# Altium schematic symbol library licenta.SchLib: 14 symbols
Pins are listed as number, name and electrical type; pins without a type are passive.

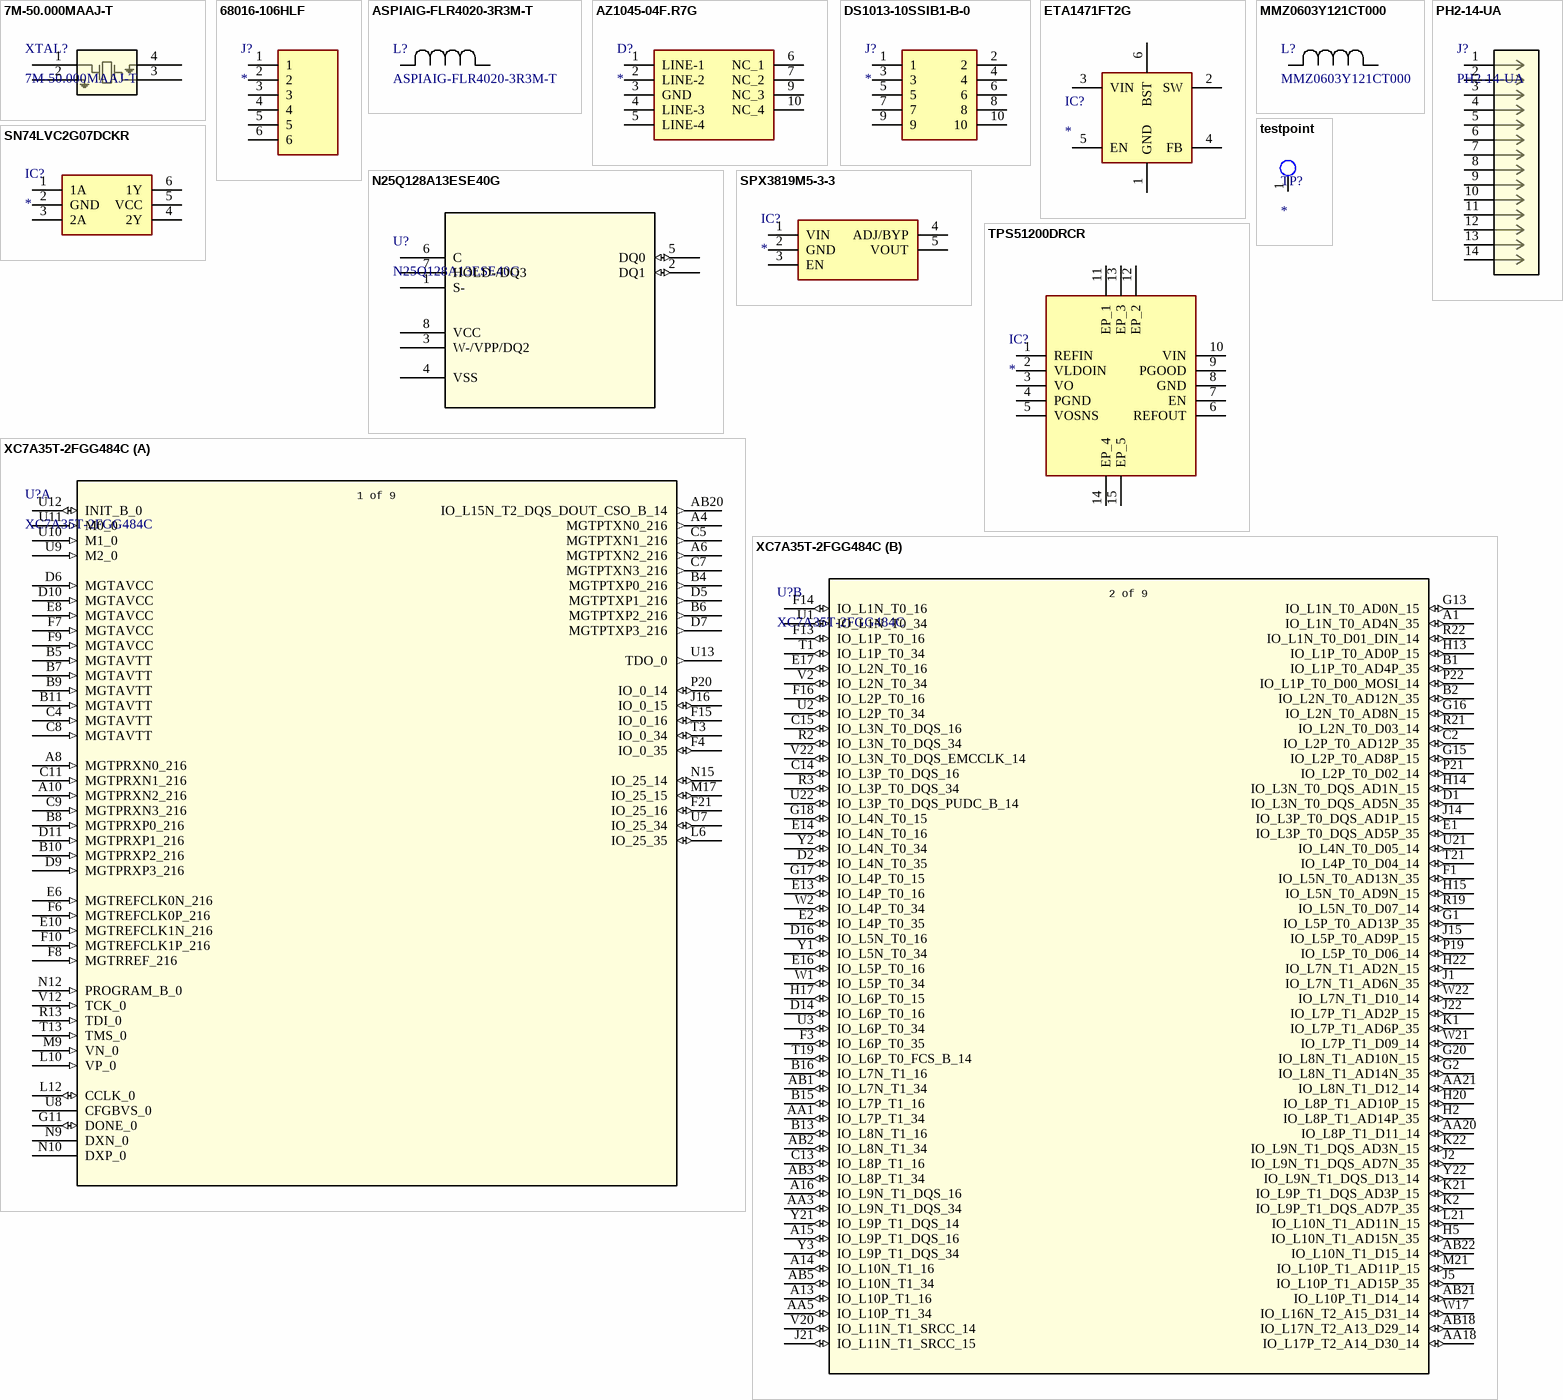
[diagram p0: symbols 7M-50.000MAAJ-T to XC7A35T-2FGG484C]

## 7M-50.000MAAJ-T
designator XTAL?
No Description Available; Manufacturer_Name: TXC; Copyright: Copyright (C) 2026 Ultra Librarian. All rights reserved.; Manufacturer_Part_Number: 7M-50.000MAAJ-T; RefDes: RefDes; Type: Type
footprint 7M_TXC
pins: 1, 2, 3, 4

## 68016-106HLF
designator J?
Connector; Manufacturer_Name: Amphenol Communications Solutions; Manufacturer_Part_Number: 68016-106HLF; Datasheet Link: https://cdn.amphenol-cs.com/media/wysiwyg/files/drawing/68015.pdf; Height: 2.54mm
footprint HDRRA6W67P0X254_1X6_1524X254X254P
pins: 1, 2, 3, 4, 5, 6

## ASPIAIG-FLR4020-3R3M-T
designator L?
Description; Manufacturer_Name: Abracon; Copyright: Copyright (C) 2026 Ultra Librarian. All rights reserved.; Manufacturer_Part_Number: ASPIAIG-FLR4020-3R3M-T
footprint IND_ASPIAIG-F4020_ABR
pins: 1, 2

## AZ1045-04F.R7G
designator D?
Diode ESD (Uni-directional); Manufacturer_Name: Amazing Microelectronic Corp.; Manufacturer_Part_Number: AZ1045-04F.R7G; Datasheet Link: https://download.datasheets.com/pdfs/2013/10/3/2/31/47/175/amzng_/manual/az1045-04f_datasheet.pdf?_ga=2.166408059.458781722.1648096097-1927931834.1642822301; Height: 0.55mm
footprint AZ104504FR7G
pins: 1 LINE-1, 2 LINE-2, 3 GND, 4 LINE-3, 5 LINE-4, 6 NC_1, 7 NC_2, 9 NC_3, 10 NC_4

## DS1013-10SSIB1-B-0
designator J?
Connector; Manufacturer_Name: Connfly; Manufacturer_Part_Number: DS1013-10SSIB1-B-0; Datasheet Link: https://www.tme.eu/Document/c6e6da985bd9c519d97c4924b5c8a047/DS1013.pdf; Height: 9.48mm
footprint DS101310SSIB1B0
pins: 1, 2, 3, 4, 5, 6, 7, 8, 9, 10

## ETA1471FT2G
designator IC?
Integrated Circuit; Manufacturer_Name: ETA Solutions; Manufacturer_Part_Number: ETA1471FT2G; Datasheet Link: https://atlas.eefcdn.com/partdatasheet/700056/700056_26425269_1757294122249.pdf; Height: 1.1mm
footprint SOT95P280X110-6N
pins: 1 GND, 2 SW, 3 VIN, 4 FB, 5 EN, 6 BST

## MMZ0603Y121CT000
designator L?
Description; Manufacturer_Name: TDK; Copyright: Copyright (C) 2026 Ultra Librarian. All rights reserved.; Manufacturer_Part_Number: MMZ0603Y121CT000
footprint IND_0603_TDK
pins: 1, 2

## N25Q128A13ESE40G
designator U?
Description; Manufacturer_Name: Micron; Copyright: Copyright (C) 2025 Ultra Librarian. All rights reserved.; Manufacturer_Part_Number: N25Q128A13ESE40G; RefDes: RefDes; Type: Type
footprint SO8W_5P49X5P49_MRN
pins: 1 S-, 2 DQ1 (io), 3 W-/VPP/DQ2 (power), 4 VSS (power), 5 DQ0 (io), 6 C, 7 HOLD-/DQ3, 8 VCC (power)

## PH2-14-UA
designator J?
Description; Manufacturer_Name: ADAM TECHNOLOGIES INC; Type: Headers, Male Pins; Copyright: Copyright (C) 2025 Ultra Librarian. All rights reserved.; Manufacturer_Part_Number: PH2-14-UA; RefDes: RefDes
footprint CONN_PH2-14-UA_ADM
pins: 1, 2, 3, 4, 5, 6, 7, 8, 9, 10, 11, 12, 13, 14

## SN74LVC2G07DCKR
designator IC?
Integrated Circuit; Manufacturer_Name: Texas Instruments; Manufacturer_Part_Number: SN74LVC2G07DCKR; Datasheet Link: https://datasheet.lcsc.com/szlcsc/Texas-Instruments-TI-SN74LVC2G07DCKR_C7849.pdf; Height: 1.1mm; Mouser Part Number: 595-SN74LVC2G07DCKR; Mouser Price/Stock: https://www.mouser.co.uk/ProductDetail/Texas-Instruments/SN74LVC2G07DCKR?qs=EIjG%252BN7kn%252Bn6uhrXwDLE9Q%3D%3D; Arrow Part Number: SN74LVC2G07DCKR; Arrow Price/Stock: https://www.arrow.com/en/products/sn74lvc2g07dckr/texas-instruments?region=nac
footprint SOT65P210X110-6N
pins: 1 1A, 2 GND, 3 2A, 4 2Y, 5 VCC, 6 1Y

## SPX3819M5-3-3
designator IC?
Integrated Circuit; Manufacturer_Name: EXAR; Manufacturer_Part_Number: SPX3819M5-3-3; Datasheet Link: https://www.alldatasheet.com/datasheet-pdf/download/190079/SIPEX/SPX3819M5-3-3.html; Height: 1.45mm; Mouser Part Number: N/A; Mouser Price/Stock: https://www.mouser.com/Search/Refine.aspx?Keyword=N%2FA
footprint SOT95P280X145-5N
pins: 1 VIN, 2 GND, 3 EN, 4 ADJ/BYP, 5 VOUT

## testpoint
designator TP?
pins: 1

## TPS51200DRCR
designator IC?
Integrated Circuit; Manufacturer_Name: Texas Instruments; Manufacturer_Part_Number: TPS51200DRCR; Datasheet Link: https://www.ti.com/lit/gpn/tps51200?HQS=ti-null-null-sf-df-pf-sep-wwe&DCM=yes; Height: 1mm; Mouser Part Number: 595-TPS51200DRCR; Mouser Price/Stock: https://www.mouser.co.uk/ProductDetail/Texas-Instruments/TPS51200DRCR?qs=WxL8HmPi5r54D5pDlo3K5g%3D%3D; Arrow Part Number: TPS51200DRCR; Arrow Price/Stock: https://www.arrow.com/en/products/tps51200drcr/texas-instruments?region=nac
footprint TPS51200DRCR
pins: 1 REFIN, 2 VLDOIN, 3 VO, 4 PGND, 5 VOSNS, 6 REFOUT, 7 EN, 8 GND, 9 PGOOD, 10 VIN, 11 EP_1, 12 EP_2, 13 EP_3, 14 EP_4, 15 EP_5

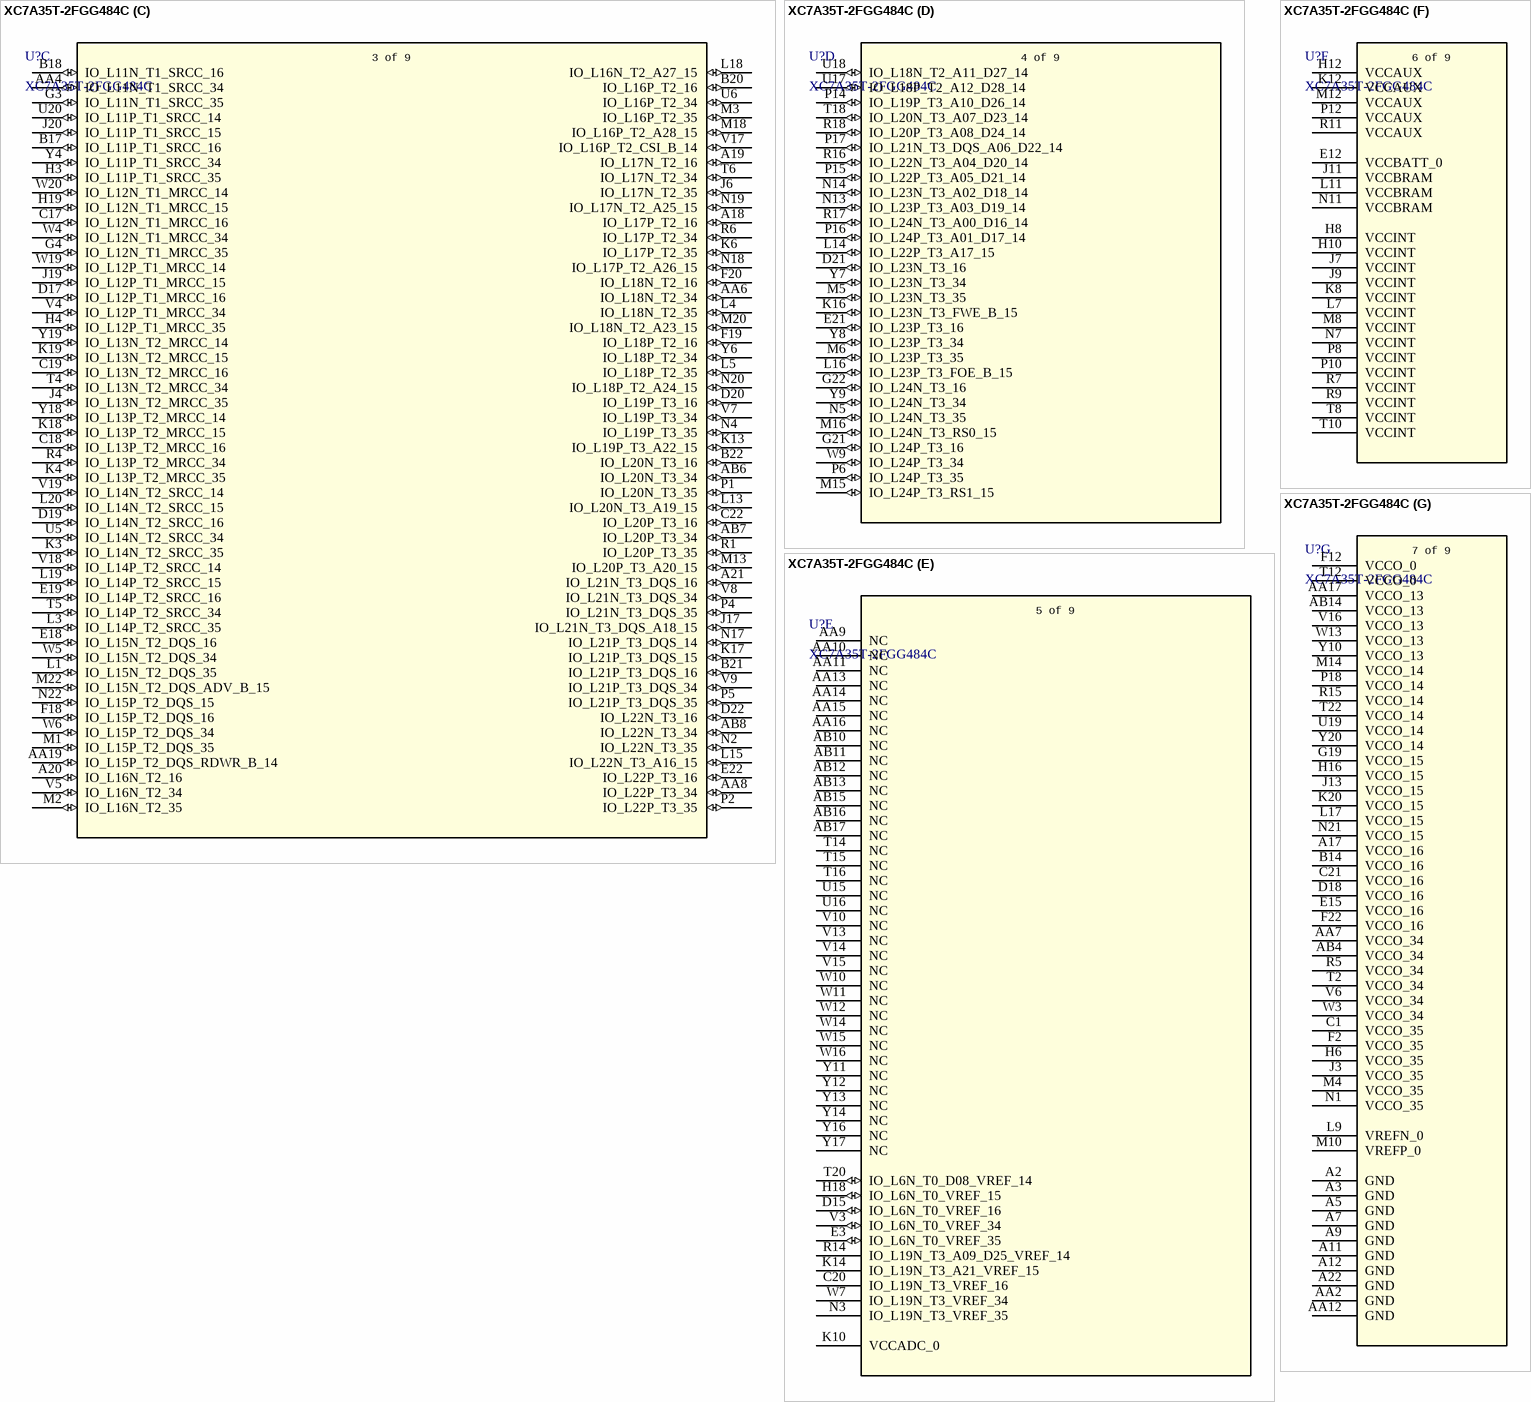
[diagram p1: symbol XC7A35T-2FGG484C]

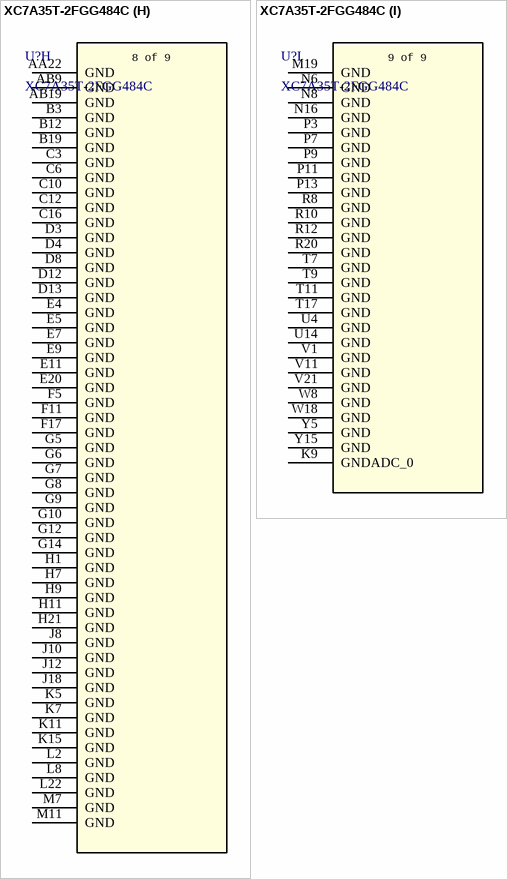
[diagram p2: symbol XC7A35T-2FGG484C]

## XC7A35T-2FGG484C
designator U?
Description; Manufacturer_Name: AMD; Copyright: Copyright (C) 2026 Ultra Librarian. All rights reserved.; Manufacturer_Part_Number: XC7A35T-2FGG484C; RefDes: RefDes; Type: Type
footprint FGG484_AMD
part A pins: A4 MGTPTXN0_216 (out), A6 MGTPTXN2_216 (out), A8 MGTPRXN0_216 (in), A10 MGTPRXN2_216 (in), AB20 IO_L15N_T2_DQS_DOUT_CSO_B_14 (out), B4 MGTPTXP0_216 (out), B5 MGTAVTT (in), B6 MGTPTXP2_216 (out), B7 MGTAVTT (in), B8 MGTPRXP0_216 (in), B9 MGTAVTT (in), B10 MGTPRXP2_216 (in), B11 MGTAVTT (in), C4 MGTAVTT (in), C5 MGTPTXN1_216 (out), C7 MGTPTXN3_216 (out), C8 MGTAVTT (in), C9 MGTPRXN3_216 (in), C11 MGTPRXN1_216 (in), D5 MGTPTXP1_216 (out), D6 MGTAVCC (in), D7 MGTPTXP3_216 (out), D9 MGTPRXP3_216 (in), D10 MGTAVCC (in), D11 MGTPRXP1_216 (in), E6 MGTREFCLK0N_216 (in), E8 MGTAVCC (in), E10 MGTREFCLK1N_216 (in), F4 IO_0_35 (io), F6 MGTREFCLK0P_216 (in), F7 MGTAVCC (in), F8 MGTRREF_216 (in), F9 MGTAVCC (in), F10 MGTREFCLK1P_216 (in), F15 IO_0_16 (io), F21 IO_25_16 (io), G11 DONE_0 (io), J16 IO_0_15 (io), L6 IO_25_35 (io), L10 VP_0 (in), L12 CCLK_0 (io), M9 VN_0 (in), M17 IO_25_15 (io), N9 DXN_0, N10 DXP_0, N12 PROGRAM_B_0 (in), N15 IO_25_14 (io), P20 IO_0_14 (io), R13 TDI_0 (in), T3 IO_0_34 (io), T13 TMS_0 (in), U7 IO_25_34 (io), U8 CFGBVS_0, U9 M2_0 (in), U10 M1_0 (in), U11 M0_0 (in), U12 INIT_B_0 (io), U13 TDO_0 (out), V12 TCK_0 (in)
part B pins: A1 IO_L1N_T0_AD4N_35 (io), A13 IO_L10P_T1_16 (io), A14 IO_L10N_T1_16 (io), A15 IO_L9P_T1_DQS_16 (io), A16 IO_L9N_T1_DQS_16 (io), AA1 IO_L7P_T1_34 (io), AA3 IO_L9N_T1_DQS_34 (io), AA5 IO_L10P_T1_34 (io), AA18 IO_L17P_T2_A14_D30_14 (io), AA20 IO_L8P_T1_D11_14 (io), AA21 IO_L8N_T1_D12_14 (io), AB1 IO_L7N_T1_34 (io), AB2 IO_L8N_T1_34 (io), AB3 IO_L8P_T1_34 (io), AB5 IO_L10N_T1_34 (io), AB18 IO_L17N_T2_A13_D29_14 (io), AB21 IO_L10P_T1_D14_14 (io), AB22 IO_L10N_T1_D15_14 (io), B1 IO_L1P_T0_AD4P_35 (io), B2 IO_L2N_T0_AD12N_35 (io), B13 IO_L8N_T1_16 (io), B15 IO_L7P_T1_16 (io), B16 IO_L7N_T1_16 (io), C2 IO_L2P_T0_AD12P_35 (io), C13 IO_L8P_T1_16 (io), C14 IO_L3P_T0_DQS_16 (io), C15 IO_L3N_T0_DQS_16 (io), D1 IO_L3N_T0_DQS_AD5N_35 (io), D2 IO_L4N_T0_35 (io), D14 IO_L6P_T0_16 (io), D16 IO_L5N_T0_16 (io), E1 IO_L3P_T0_DQS_AD5P_35 (io), E2 IO_L4P_T0_35 (io), E13 IO_L4P_T0_16 (io), E14 IO_L4N_T0_16 (io), E16 IO_L5P_T0_16 (io), E17 IO_L2N_T0_16 (io), F1 IO_L5N_T0_AD13N_35 (io), F3 IO_L6P_T0_35 (io), F13 IO_L1P_T0_16 (io), F14 IO_L1N_T0_16 (io), F16 IO_L2P_T0_16 (io), G1 IO_L5P_T0_AD13P_35 (io), G2 IO_L8N_T1_AD14N_35 (io), G13 IO_L1N_T0_AD0N_15 (io), G15 IO_L2P_T0_AD8P_15 (io), G16 IO_L2N_T0_AD8N_15 (io), G17 IO_L4P_T0_15 (io), G18 IO_L4N_T0_15 (io), G20 IO_L8N_T1_AD10N_15 (io), H2 IO_L8P_T1_AD14P_35 (io), H5 IO_L10N_T1_AD15N_35 (io), H13 IO_L1P_T0_AD0P_15 (io), H14 IO_L3N_T0_DQS_AD1N_15 (io), H15 IO_L5N_T0_AD9N_15 (io), H17 IO_L6P_T0_15 (io), H20 IO_L8P_T1_AD10P_15 (io), H22 IO_L7N_T1_AD2N_15 (io), J1 IO_L7N_T1_AD6N_35 (io), J2 IO_L9N_T1_DQS_AD7N_35 (io), J5 IO_L10P_T1_AD15P_35 (io), J14 IO_L3P_T0_DQS_AD1P_15 (io), J15 IO_L5P_T0_AD9P_15 (io), J21 IO_L11N_T1_SRCC_15 (io), J22 IO_L7P_T1_AD2P_15 (io), K1 IO_L7P_T1_AD6P_35 (io), K2 IO_L9P_T1_DQS_AD7P_35 (io), K21 IO_L9P_T1_DQS_AD3P_15 (io), K22 IO_L9N_T1_DQS_AD3N_15 (io), L21 IO_L10N_T1_AD11N_15 (io), M21 IO_L10P_T1_AD11P_15 (io), P19 IO_L5P_T0_D06_14 (io), P21 IO_L2P_T0_D02_14 (io), P22 IO_L1P_T0_D00_MOSI_14 (io), R2 IO_L3N_T0_DQS_34 (io), R3 IO_L3P_T0_DQS_34 (io), R19 IO_L5N_T0_D07_14 (io), R21 IO_L2N_T0_D03_14 (io), R22 IO_L1N_T0_D01_DIN_14 (io), T1 IO_L1P_T0_34 (io), T19 IO_L6P_T0_FCS_B_14 (io), T21 IO_L4P_T0_D04_14 (io), U1 IO_L1N_T0_34 (io), U2 IO_L2P_T0_34 (io), U3 IO_L6P_T0_34 (io), U21 IO_L4N_T0_D05_14 (io), U22 IO_L3P_T0_DQS_PUDC_B_14 (io), V2 IO_L2N_T0_34 (io), V20 IO_L11N_T1_SRCC_14 (io), V22 IO_L3N_T0_DQS_EMCCLK_14 (io), W1 IO_L5P_T0_34 (io), W2 IO_L4P_T0_34 (io), W17 IO_L16N_T2_A15_D31_14 (io), W21 IO_L7P_T1_D09_14 (io), W22 IO_L7N_T1_D10_14 (io), Y1 IO_L5N_T0_34 (io), Y2 IO_L4N_T0_34 (io), Y3 IO_L9P_T1_DQS_34 (io), Y21 IO_L9P_T1_DQS_14 (io), Y22 IO_L9N_T1_DQS_D13_14 (io)
part C pins: A18 IO_L17P_T2_16 (io), A19 IO_L17N_T2_16 (io), A20 IO_L16N_T2_16 (io), A21 IO_L21N_T3_DQS_16 (io), AA4 IO_L11N_T1_SRCC_34 (io), AA6 IO_L18N_T2_34 (io), AA8 IO_L22P_T3_34 (io), AA19 IO_L15P_T2_DQS_RDWR_B_14 (io), AB6 IO_L20N_T3_34 (io), AB7 IO_L20P_T3_34 (io), AB8 IO_L22N_T3_34 (io), B17 IO_L11P_T1_SRCC_16 (io), B18 IO_L11N_T1_SRCC_16 (io), B20 IO_L16P_T2_16 (io), B21 IO_L21P_T3_DQS_16 (io), B22 IO_L20N_T3_16 (io), C17 IO_L12N_T1_MRCC_16 (io), C18 IO_L13P_T2_MRCC_16 (io), C19 IO_L13N_T2_MRCC_16 (io), C22 IO_L20P_T3_16 (io), D17 IO_L12P_T1_MRCC_16 (io), D19 IO_L14N_T2_SRCC_16 (io), D20 IO_L19P_T3_16 (io), D22 IO_L22N_T3_16 (io), E18 IO_L15N_T2_DQS_16 (io), E19 IO_L14P_T2_SRCC_16 (io), E22 IO_L22P_T3_16 (io), F18 IO_L15P_T2_DQS_16 (io), F19 IO_L18P_T2_16 (io), F20 IO_L18N_T2_16 (io), G3 IO_L11N_T1_SRCC_35 (io), G4 IO_L12N_T1_MRCC_35 (io), H3 IO_L11P_T1_SRCC_35 (io), H4 IO_L12P_T1_MRCC_35 (io), H19 IO_L12N_T1_MRCC_15 (io), J4 IO_L13N_T2_MRCC_35 (io), J6 IO_L17N_T2_35 (io), J17 IO_L21N_T3_DQS_A18_15 (io), J19 IO_L12P_T1_MRCC_15 (io), J20 IO_L11P_T1_SRCC_15 (io), K3 IO_L14N_T2_SRCC_35 (io), K4 IO_L13P_T2_MRCC_35 (io), K6 IO_L17P_T2_35 (io), K13 IO_L19P_T3_A22_15 (io), K17 IO_L21P_T3_DQS_15 (io), K18 IO_L13P_T2_MRCC_15 (io), K19 IO_L13N_T2_MRCC_15 (io), L1 IO_L15N_T2_DQS_35 (io), L3 IO_L14P_T2_SRCC_35 (io), L4 IO_L18N_T2_35 (io), L5 IO_L18P_T2_35 (io), L13 IO_L20N_T3_A19_15 (io), L15 IO_L22N_T3_A16_15 (io), L18 IO_L16N_T2_A27_15 (io), L19 IO_L14P_T2_SRCC_15 (io), L20 IO_L14N_T2_SRCC_15 (io), M1 IO_L15P_T2_DQS_35 (io), M2 IO_L16N_T2_35 (io), M3 IO_L16P_T2_35 (io), M13 IO_L20P_T3_A20_15 (io), M18 IO_L16P_T2_A28_15 (io), M20 IO_L18N_T2_A23_15 (io), M22 IO_L15N_T2_DQS_ADV_B_15 (io), N2 IO_L22N_T3_35 (io), N4 IO_L19P_T3_35 (io), N17 IO_L21P_T3_DQS_14 (io), N18 IO_L17P_T2_A26_15 (io), N19 IO_L17N_T2_A25_15 (io), N20 IO_L18P_T2_A24_15 (io), N22 IO_L15P_T2_DQS_15 (io), P1 IO_L20N_T3_35 (io), P2 IO_L22P_T3_35 (io), P4 IO_L21N_T3_DQS_35 (io), P5 IO_L21P_T3_DQS_35 (io), R1 IO_L20P_T3_35 (io), R4 IO_L13P_T2_MRCC_34 (io), R6 IO_L17P_T2_34 (io), T4 IO_L13N_T2_MRCC_34 (io), T5 IO_L14P_T2_SRCC_34 (io), T6 IO_L17N_T2_34 (io), U5 IO_L14N_T2_SRCC_34 (io), U6 IO_L16P_T2_34 (io), U20 IO_L11P_T1_SRCC_14 (io), V4 IO_L12P_T1_MRCC_34 (io), V5 IO_L16N_T2_34 (io), V7 IO_L19P_T3_34 (io), V8 IO_L21N_T3_DQS_34 (io), V9 IO_L21P_T3_DQS_34 (io), V17 IO_L16P_T2_CSI_B_14 (io), V18 IO_L14P_T2_SRCC_14 (io), V19 IO_L14N_T2_SRCC_14 (io), W4 IO_L12N_T1_MRCC_34 (io), W5 IO_L15N_T2_DQS_34 (io), W6 IO_L15P_T2_DQS_34 (io), W19 IO_L12P_T1_MRCC_14 (io), W20 IO_L12N_T1_MRCC_14 (io), Y4 IO_L11P_T1_SRCC_34 (io), Y6 IO_L18P_T2_34 (io), Y18 IO_L13P_T2_MRCC_14 (io), Y19 IO_L13N_T2_MRCC_14 (io)
part D pins: D21 IO_L23N_T3_16 (io), E21 IO_L23P_T3_16 (io), G21 IO_L24P_T3_16 (io), G22 IO_L24N_T3_16 (io), K16 IO_L23N_T3_FWE_B_15 (io), L14 IO_L22P_T3_A17_15 (io), L16 IO_L23P_T3_FOE_B_15 (io), M5 IO_L23N_T3_35 (io), M6 IO_L23P_T3_35 (io), M15 IO_L24P_T3_RS1_15 (io), M16 IO_L24N_T3_RS0_15 (io), N5 IO_L24N_T3_35 (io), N13 IO_L23P_T3_A03_D19_14 (io), N14 IO_L23N_T3_A02_D18_14 (io), P6 IO_L24P_T3_35 (io), P14 IO_L19P_T3_A10_D26_14 (io), P15 IO_L22P_T3_A05_D21_14 (io), P16 IO_L24P_T3_A01_D17_14 (io), P17 IO_L21N_T3_DQS_A06_D22_14 (io), R16 IO_L22N_T3_A04_D20_14 (io), R17 IO_L24N_T3_A00_D16_14 (io), R18 IO_L20P_T3_A08_D24_14 (io), T18 IO_L20N_T3_A07_D23_14 (io), U17 IO_L18P_T2_A12_D28_14 (io), U18 IO_L18N_T2_A11_D27_14 (io), W9 IO_L24P_T3_34 (io), Y7 IO_L23N_T3_34 (io), Y8 IO_L23P_T3_34 (io), Y9 IO_L24N_T3_34 (io)
part E pins: AA9 NC, AA10 NC, AA11 NC, AA13 NC, AA14 NC, AA15 NC, AA16 NC, AB10 NC, AB11 NC, AB12 NC, AB13 NC, AB15 NC, AB16 NC, AB17 NC, C20 IO_L19N_T3_VREF_16 (power), D15 IO_L6N_T0_VREF_16 (io), E3 IO_L6N_T0_VREF_35 (io), H18 IO_L6N_T0_VREF_15 (io), K10 VCCADC_0 (power), K14 IO_L19N_T3_A21_VREF_15 (power), N3 IO_L19N_T3_VREF_35 (power), R14 IO_L19N_T3_A09_D25_VREF_14 (power), T14 NC, T15 NC, T16 NC, T20 IO_L6N_T0_D08_VREF_14 (io), U15 NC, U16 NC, V3 IO_L6N_T0_VREF_34 (io), V10 NC, V13 NC, V14 NC, V15 NC, W7 IO_L19N_T3_VREF_34 (power), W10 NC, W11 NC, W12 NC, W14 NC, W15 NC, W16 NC, Y11 NC, Y12 NC, Y13 NC, Y14 NC, Y16 NC, Y17 NC
part F pins: E12 VCCBATT_0 (power), H8 VCCINT (power), H10 VCCINT (power), H12 VCCAUX (power), J7 VCCINT (power), J9 VCCINT (power), J11 VCCBRAM (power), K8 VCCINT (power), K12 VCCAUX (power), L7 VCCINT (power), L11 VCCBRAM (power), M8 VCCINT (power), M12 VCCAUX (power), N7 VCCINT (power), N11 VCCBRAM (power), P8 VCCINT (power), P10 VCCINT (power), P12 VCCAUX (power), R7 VCCINT (power), R9 VCCINT (power), R11 VCCAUX (power), T8 VCCINT (power), T10 VCCINT (power)
part G pins: A2 GND (power), A3 GND (power), A5 GND (power), A7 GND (power), A9 GND (power), A11 GND (power), A12 GND (power), A17 VCCO_16 (power), A22 GND (power), AA2 GND (power), AA7 VCCO_34 (power), AA12 GND (power), AA17 VCCO_13 (power), AB4 VCCO_34 (power), AB14 VCCO_13 (power), B14 VCCO_16 (power), C1 VCCO_35 (power), C21 VCCO_16 (power), D18 VCCO_16 (power), E15 VCCO_16 (power), F2 VCCO_35 (power), F12 VCCO_0 (power), F22 VCCO_16 (power), G19 VCCO_15 (power), H6 VCCO_35 (power), H16 VCCO_15 (power), J3 VCCO_35 (power), J13 VCCO_15 (power), K20 VCCO_15 (power), L9 VREFN_0 (power), L17 VCCO_15 (power), M4 VCCO_35 (power), M10 VREFP_0 (power), M14 VCCO_14 (power), N1 VCCO_35 (power), N21 VCCO_15 (power), P18 VCCO_14 (power), R5 VCCO_34 (power), R15 VCCO_14 (power), T2 VCCO_34 (power), T12 VCCO_0 (power), T22 VCCO_14 (power), U19 VCCO_14 (power), V6 VCCO_34 (power), V16 VCCO_13 (power), W3 VCCO_34 (power), W13 VCCO_13 (power), Y10 VCCO_13 (power), Y20 VCCO_14 (power)
part H pins: AA22 GND (power), AB9 GND (power), AB19 GND (power), B3 GND (power), B12 GND (power), B19 GND (power), C3 GND (power), C6 GND (power), C10 GND (power), C12 GND (power), C16 GND (power), D3 GND (power), D4 GND (power), D8 GND (power), D12 GND (power), D13 GND (power), E4 GND (power), E5 GND (power), E7 GND (power), E9 GND (power), E11 GND (power), E20 GND (power), F5 GND (power), F11 GND (power), F17 GND (power), G5 GND (power), G6 GND (power), G7 GND (power), G8 GND (power), G9 GND (power), G10 GND (power), G12 GND (power), G14 GND (power), H1 GND (power), H7 GND (power), H9 GND (power), H11 GND (power), H21 GND (power), J8 GND (power), J10 GND (power), J12 GND (power), J18 GND (power), K5 GND (power), K7 GND (power), K11 GND (power), K15 GND (power), L2 GND (power), L8 GND (power), L22 GND (power), M7 GND (power), M11 GND (power)
part I pins: K9 GNDADC_0, M19 GND (power), N6 GND (power), N8 GND (power), N16 GND (power), P3 GND (power), P7 GND (power), P9 GND (power), P11 GND (power), P13 GND (power), R8 GND (power), R10 GND (power), R12 GND (power), R20 GND (power), T7 GND (power), T9 GND (power), T11 GND (power), T17 GND (power), U4 GND (power), U14 GND (power), V1 GND (power), V11 GND (power), V21 GND (power), W8 GND (power), W18 GND (power), Y5 GND (power), Y15 GND (power)
part A text: 1 of 9
part B text: 2 of 9
part C text: 3 of 9
part D text: 4 of 9
part E text: 5 of 9
part F text: 6 of 9
part G text: 7 of 9
part H text: 8 of 9
part I text: 9 of 9